# Altium schematic symbol library Simulation_SPICE.SchLib: 41 symbols
Pins are listed as number, name and electrical type; pins without a type are passive.

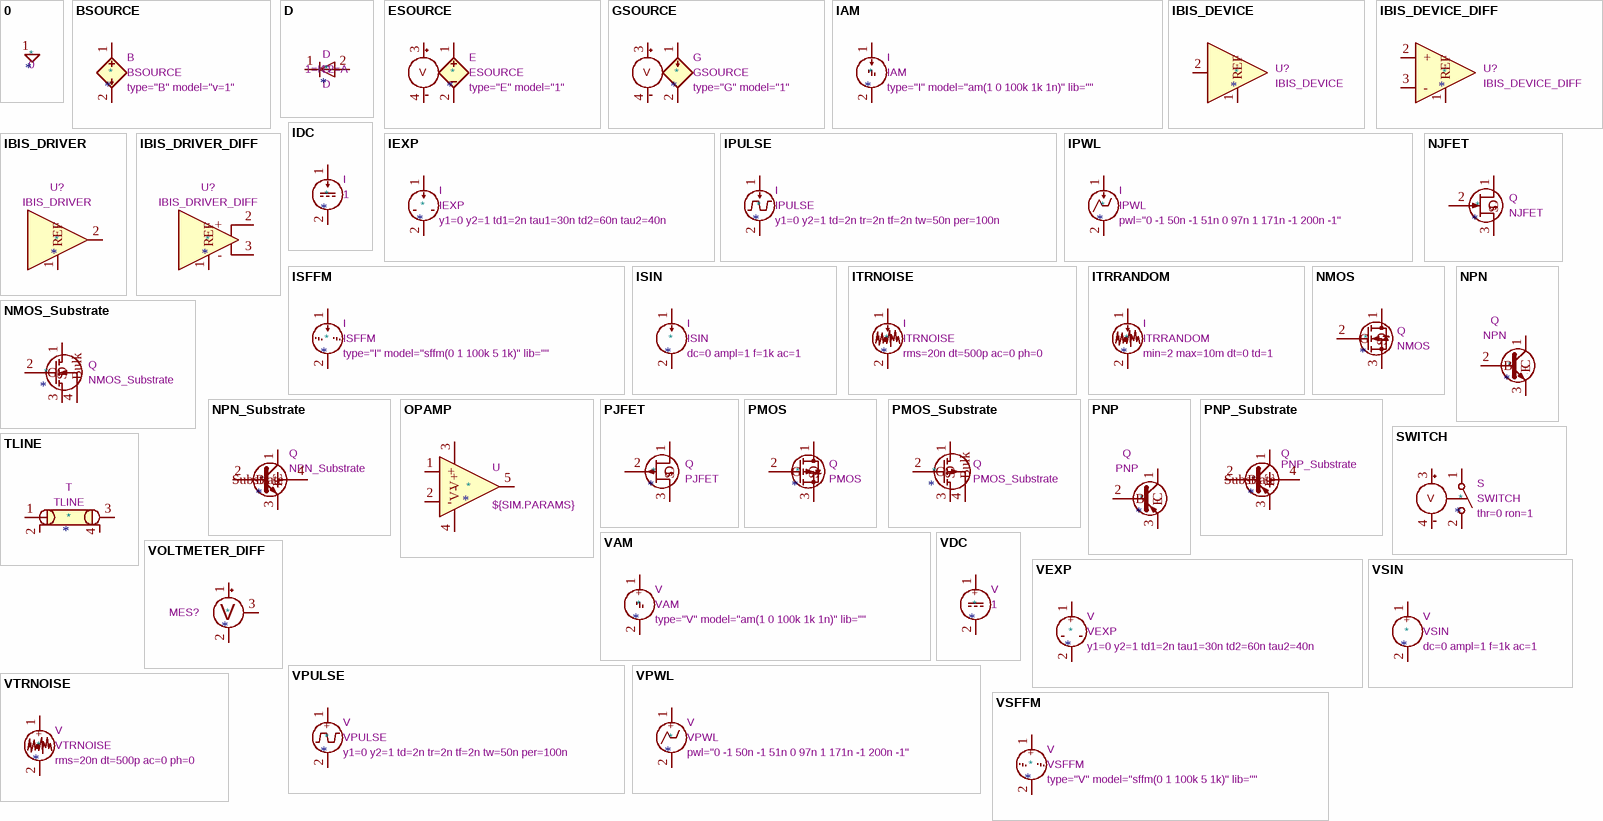
[diagram p0: symbols 0 to VTRNOISE]

## 0
designator *  value 0
Reference: #GND; ki_keywords: simulation; ki_description: 0V reference potential for simulation; Datasheet: ~
pins: 1 0

## BSOURCE
designator *  value BSOURCE  Reference: B  Sim.Params: type="B" model="v=1"
Sim.Device: SPICE; ki_keywords: simulation dependent; ki_description: Arbitrary behavioral voltage or current source for simulation only; Datasheet: https://ngspice.sourceforge.io/docs.html
pins: 1 N+, 2 N-

## D
designator *  value D  Sim.Pins: 1=K 2=A
ki_keywords: simulation; ki_description: Diode for simulation or PCB; ki_fp_filters: TO-???* *_Diode_* *SingleDiode* D_*; Reference: D; Datasheet: ~; Sim.Device: D
pins: 1 K, 2 A

## ESOURCE
designator *  value ESOURCE  Reference: E  Sim.Params: type="E" model="1"
Sim.Device: SPICE; ki_keywords: simulation vcvs dependent; ki_description: Voltage-controlled voltage source symbol for simulation only; Datasheet: https://ngspice.sourceforge.io/docs.html
pins: 1 N+, 2 N-, 3 C+, 4 C-
text: V

## GSOURCE
designator *  value GSOURCE  Reference: G  Sim.Params: type="G" model="1"
Sim.Device: SPICE; ki_keywords: simulation vccs dependent; ki_description: Voltage-controlled current source symbol for simulation only; Datasheet: https://ngspice.sourceforge.io/docs.html
pins: 1 N+, 2 N-, 3 C+, 4 C-
text: V

## IAM
designator *  value IAM  Reference: I  Sim.Params: type="I" model="am(1 0 100k 1k 1n)" lib=""
Sim.Pins: 1=1 2=2; Sim.Device: SPICE; ki_keywords: simulation amplitude modulated; ki_description: Current source, AM; Datasheet: ~
pins: 1, 2

## IBIS_DEVICE
designator *  value IBIS_DEVICE  Reference: U?
Sim.Device: IBIS; Sim.Type: IBISDEVICE; Sim.Pins: 1=1 2=2; ki_keywords: Simulation IBIS; ki_description: Device model for IBIS files. Pin 3 can be used to monitor the die potential; Datasheet: https://ibis.org
pins: 1 REF, 2

## IBIS_DEVICE_DIFF
designator *  value IBIS_DEVICE_DIFF  Reference: U?
Sim.Device: IBIS; Sim.Type: IBISDRIVERDC; Sim.Pins: 1=1 2=2 3=3; Ibis_Diff: 1; ki_keywords: Simulation IBIS; ki_description: Device model for IBIS files. Pin 3 can be used to monitor the die potential; Datasheet: https://ibis.org
pins: 1 REF, 2 +, 3 -

## IBIS_DRIVER
designator *  value IBIS_DRIVER  Reference: U?
Sim.Device: IBIS; Sim.Type: IBISDRIVERDC; Sim.Pins: 1=1 2=2; ki_keywords: Simulation IBIS; ki_description: Driver model for IBIS files.; Datasheet: https://ibis.org
pins: 1 REF, 2

## IBIS_DRIVER_DIFF
designator *  value IBIS_DRIVER_DIFF  Reference: U?
Ibis_Diff: 1; Sim.Device: IBIS; Sim.Type: IBISDRIVERDC; Sim.Pins: 1=1 2=2 3=3; ki_keywords: Simulation IBIS; ki_description: Driver model for IBIS files. Pin 3 can be used to monitor the die potential.; Datasheet: https://ibis.org
pins: 1 REF, 2 +, 3 -

## IDC
designator *  value 1  Reference: I
Sim.Pins: 1=+ 2=-; Sim.Type: DC; ki_keywords: simulation; ki_description: Current source, DC; Datasheet: ~; Sim.Device: I
pins: 1, 2

## IEXP
designator *  value IEXP  Reference: I  Sim.Params: y1=0 y2=1 td1=2n tau1=30n td2=60n tau2=40n
Sim.Pins: 1=+ 2=-; Sim.Type: EXP; ki_keywords: simulation; ki_description: Current source, exponential; Datasheet: ~; Sim.Device: I
pins: 1, 2

## IPULSE
designator *  value IPULSE  Reference: I  Sim.Params: y1=0 y2=1 td=2n tr=2n tf=2n tw=50n per=100n
Sim.Pins: 1=+ 2=-; Sim.Type: PULSE; ki_keywords: simulation; ki_description: Current source, pulse; Datasheet: ~; Sim.Device: I
pins: 1, 2

## IPWL
designator *  value IPWL  Reference: I  Sim.Params: pwl="0 -1 50n -1 51n 0 97n 1 171n -1 200n -1"
Sim.Pins: 1=+ 2=-; Sim.Type: PWL; ki_keywords: simulation; ki_description: Current source, piece-wise linear; Datasheet: ~; Sim.Device: I
pins: 1, 2

## ISFFM
designator *  value ISFFM  Reference: I  Sim.Params: type="I" model="sffm(0 1 100k 5 1k)" lib=""
Sim.Pins: 1=1 2=2; Sim.Device: SPICE; ki_keywords: simulation frequency modulated; ki_description: Current source, single-frequency FM; Datasheet: ~
pins: 1, 2

## ISIN
designator *  value ISIN  Reference: I  Sim.Params: dc=0 ampl=1 f=1k ac=1
Sim.Pins: 1=+ 2=-; Sim.Type: SIN; ki_keywords: simulation; ki_description: Current source, sinusoidal; Datasheet: ~; Sim.Device: I
pins: 1, 2

## ITRNOISE
designator *  value ITRNOISE  Reference: I  Sim.Params: rms=20n dt=500p ac=0 ph=0
Sim.Pins: 1=+ 2=-; Sim.Type: WHITENOISE; ki_keywords: simulation; ki_description: Current source, transient noise; Datasheet: ~; Sim.Device: I
pins: 1, 2

## ITRRANDOM
designator *  value ITRRANDOM  Reference: I  Sim.Params: min=2 max=10m dt=0 td=1
Sim.Pins: 1=+ 2=-; Sim.Type: RANDUNIFORM; ki_keywords: simulation; ki_description: Current source, random noise; Datasheet: ~; Sim.Device: I
pins: 1, 2

## NJFET
designator *  value NJFET  Reference: Q
Sim.Type: SHICHMANHODGES; Sim.Pins: 1=D 2=G 3=S; ki_keywords: transistor NJFET N-JFET; ki_description: N-JFET transistor, for simulation only; Datasheet: ~; Sim.Device: NJFET
pins: 1 D, 2 G, 3 S

## NMOS
designator *  value NMOS  Reference: Q
Sim.Type: VDMOS; Sim.Pins: 1=D 2=G 3=S; ki_keywords: transistor NMOS N-MOS N-MOSFET simulation; ki_description: N-MOSFET transistor, drain/source/gate; Datasheet: https://ngspice.sourceforge.io/docs/ngspice-manual.pdf; Sim.Device: NMOS
pins: 1 D, 2 G, 3 S

## NMOS_Substrate
designator *  value NMOS_Substrate  Reference: Q
Sim.Device: NMOS; Sim.Type: MOS1; Sim.Pins: 1=D 2=G 3=S 4=B; ki_keywords: mosfet nmos simulation; ki_description: N-channel MOSFET symbol with substrate (bulk) pin; Datasheet: https://ngspice.sourceforge.io/docs/ngspice-manual.pdf
pins: 1 D, 2 G, 3 S, 4 Bulk

## NPN
designator *  value NPN  Reference: Q
Sim.Type: GUMMELPOON; Sim.Pins: 1=C 2=B 3=E; ki_keywords: simulation; ki_description: Bipolar transistor symbol for simulation only, substrate tied to the emitter; Datasheet: ~; Sim.Device: NPN
pins: 1 C, 2 B, 3 E

## NPN_Substrate
designator *  value NPN_Substrate  Reference: Q
Sim.Device: NPN; Sim.Type: GUMMELPOON; Sim.Pins: 1=C 2=B 3=E; ki_keywords: simulation; ki_description: Bipolar transistor symbol for simulation only, with substrate pin; Datasheet: ~
pins: 1 C, 2 B, 3 E, 4 Substrate

## OPAMP
designator *  value ${SIM.PARAMS}  Reference: U
Sim.Pins: 1=in+ 2=in- 3=vcc 4=vee 5=out; Sim.Device: SUBCKT; Sim.Library: ${KICAD7_SYMBOL_DIR}/Simulation_SPICE.sp; Sim.Name: kicad_builtin_opamp; ki_keywords: simulation; ki_description: Operational amplifier, single, node sequence=1:+ 2:- 3:OUT 4:V+ 5:V-; Datasheet: ~
pins: 1 +, 2 -, 3 V+, 4 V-, 5

## PJFET
designator *  value PJFET  Reference: Q
Sim.Type: SHICHMANHODGES; Sim.Pins: 1=D 2=G 3=S; ki_keywords: transistor PJFET P-JFET; ki_description: P-JFET transistor, for simulation only; Datasheet: ~; Sim.Device: PJFET
pins: 1 D, 2 G, 3 S

## PMOS
designator *  value PMOS  Reference: Q
Sim.Type: VDMOS; Sim.Pins: 1=D 2=G 3=S; ki_keywords: transistor PMOS P-MOS P-MOSFET simulation; ki_description: P-MOSFET transistor, drain/source/gate; Datasheet: https://ngspice.sourceforge.io/docs/ngspice-manual.pdf; Sim.Device: PMOS
pins: 1 D, 2 G, 3 S

## PMOS_Substrate
designator *  value PMOS_Substrate  Reference: Q
Sim.Device: PMOS; Sim.Type: MOS1; Sim.Pins: 1=D 2=G 3=S 4=B; ki_keywords: mosfet pmos simulation; ki_description: P-channel MOSFET symbol with substrate (bulk) pin; Datasheet: https://ngspice.sourceforge.io/docs/ngspice-manual.pdf
pins: 1 D, 2 G, 3 S, 4 Bulk

## PNP
designator *  value PNP  Reference: Q
Sim.Type: GUMMELPOON; Sim.Pins: 1=C 2=B 3=E; ki_keywords: simulation; ki_description: Bipolar transistor symbol for simulation only, substrate tied to the emitter; Datasheet: ~; Sim.Device: PNP
pins: 1 C, 2 B, 3 E

## PNP_Substrate
designator *  value PNP_Substrate  Reference: Q
Sim.Device: PNP; Sim.Type: GUMMELPOON; Sim.Pins: 1=C 2=B 3=E; ki_keywords: simulation; ki_description: Bipolar transistor symbol for simulation only, with substrate pin; Datasheet: ~
pins: 1 C, 2 B, 3 E, 4 Substrate

## SWITCH
designator *  value SWITCH  Reference: S  Sim.Params: thr=0 ron=1
Sim.Device: SW; Sim.Type: V; Sim.Pins: 1=no+ 2=no- 3=ctrl+ 4=ctrl-; ki_keywords: simulation; ki_description: Voltage controlled switch symbol for simulation only; Datasheet: https://ngspice.sourceforge.io/docs/ngspice-html-manual/manual.xhtml#subsec_Switches
pins: 1 N+, 2 N-, 3 C+, 4 C-

## TLINE
designator *  value TLINE  Reference: T
ki_keywords: lossless transmission line characteristic impedance; ki_description: Lossless transmission line, for simulation only; Datasheet: http://ngspice.sourceforge.net/docs/ngspice-36-manual.pdf#7f
pins: 1, 2, 3, 4

## VAM
designator *  value VAM  Reference: V  Sim.Params: type="V" model="am(1 0 100k 1k 1n)" lib=""
Sim.Pins: 1=1 2=2; Sim.Device: SPICE; ki_keywords: simulation amplitude modulated; ki_description: Voltage source, AM; Datasheet: ~
pins: 1, 2
text: +

## VDC
designator *  value 1  Reference: V
Sim.Pins: 1=+ 2=-; Sim.Type: DC; ki_keywords: simulation; ki_description: Voltage source, DC; Datasheet: ~; Sim.Device: V
pins: 1, 2
text: +

## VEXP
designator *  value VEXP  Reference: V  Sim.Params: y1=0 y2=1 td1=2n tau1=30n td2=60n tau2=40n
Sim.Pins: 1=+ 2=-; Sim.Type: EXP; ki_keywords: simulation; ki_description: Voltage source, exponential; Datasheet: ~; Sim.Device: V
pins: 1, 2
text: +

## VOLTMETER_DIFF
designator *  Reference: MES?
Value: VOLTMETER_DIFF; Sim.Name: kicad_builtin_vdiff; Sim.Device: SUBCKT; Sim.Pins: 1=1 2=2 3=3; Sim.Library: ${KICAD7_SYMBOL_DIR}/Simulation_SPICE.sp; ki_keywords: voltmeter differential vdiff; ki_description: Differential voltmeter for simulation. The sensed differential voltage can be measured on the third terminal as a single-ended voltage; Datasheet: https://ngspice.sourceforge.io/docs/ngspice-manual.pdf
pins: 1 +, 2 -, 3 out
text: V

## VPULSE
designator *  value VPULSE  Reference: V  Sim.Params: y1=0 y2=1 td=2n tr=2n tf=2n tw=50n per=100n
Sim.Pins: 1=+ 2=-; Sim.Type: PULSE; ki_keywords: simulation; ki_description: Voltage source, pulse; Datasheet: ~; Sim.Device: V
pins: 1, 2
text: +

## VPWL
designator *  value VPWL  Reference: V  Sim.Params: pwl="0 -1 50n -1 51n 0 97n 1 171n -1 200n -1"
Sim.Pins: 1=+ 2=-; Sim.Type: PWL; ki_keywords: simulation; ki_description: Voltage source, piece-wise linear; Datasheet: ~; Sim.Device: V
pins: 1, 2
text: +

## VSFFM
designator *  value VSFFM  Reference: V  Sim.Params: type="V" model="sffm(0 1 100k 5 1k)" lib=""
Sim.Pins: 1=1 2=2; Sim.Device: SPICE; ki_keywords: simulation frequency modulated; ki_description: Voltage source, single-frequency FM; Datasheet: ~
pins: 1, 2
text: +

## VSIN
designator *  value VSIN  Reference: V  Sim.Params: dc=0 ampl=1 f=1k ac=1
Sim.Pins: 1=+ 2=-; Sim.Type: SIN; ki_keywords: simulation ac vac; ki_description: Voltage source, sinusoidal; Datasheet: ~; Sim.Device: V
pins: 1, 2
text: +

## VTRNOISE
designator *  value VTRNOISE  Reference: V  Sim.Params: rms=20n dt=500p ac=0 ph=0
Sim.Pins: 1=+ 2=-; Sim.Type: WHITENOISE; ki_keywords: simulation; ki_description: Voltage source, transient noise; Datasheet: ~; Sim.Device: V
pins: 1, 2
text: +

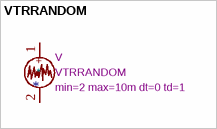
[diagram p1: symbol VTRRANDOM]

## VTRRANDOM
designator *  value VTRRANDOM  Reference: V  Sim.Params: min=2 max=10m dt=0 td=1
Sim.Pins: 1=+ 2=-; Sim.Type: RANDUNIFORM; ki_keywords: simulation; ki_description: Voltage source, random noise; Datasheet: ~; Sim.Device: V
pins: 1, 2
text: +